# EAGLE library part LT3742 (library PowerProducts)
LT-Spice library generated with : ltspice.ulp from: D:/Program Files (x86)/LTC/LTspiceIV/lib/sym/PowerProducts/LT3748*.asy at 07.10.2012 16:36:13
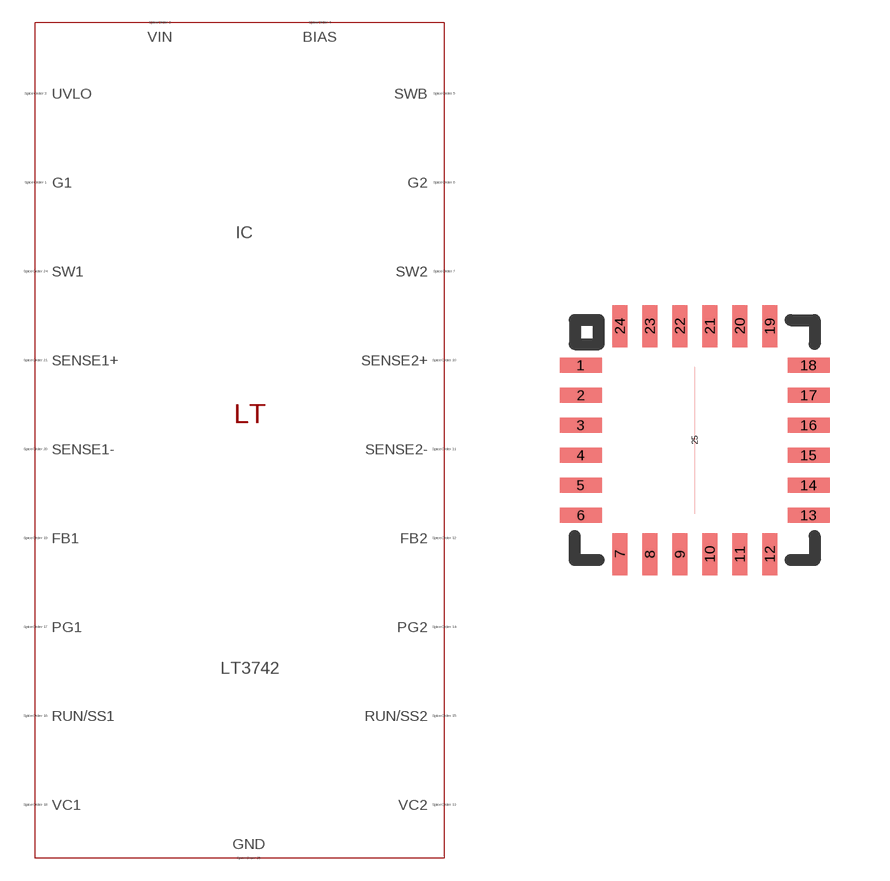
[diagram p93: symbol with the pads of QFN24(UF); footprint QFN24(UF)]

Designator prefix IC

## LT3742 (SPICEMODEL: LT3742.sub; SPICEPREFIX: X; VALUE2: LT3742)  [QFN24(UF)]
1  G1  pas
2  VIN  pas
3  UVLO  pas
4  BIAS  pas
5  SWB  pas
6  G2  pas
7  SW2  pas
10  SENSE2+  pas
11  SENSE2-  pas
12  FB2  pas
13  VC2  pas
14  PG2  pas
15  RUN/SS2  pas
16  RUN/SS1  pas
17  PG1  pas
18  VC1  pas
19  FB1  pas
20  SENSE1-  pas
21  SENSE1+  pas
24  SW1  pas
25  GND  pas

## Footprint QFN24(UF) (pad centres in mm)
Package generated from: QFN24(UF).asc (!PADS-POWERPCB-V5.0-BASIC! DESIGN DATABASE ASCII FILE 1.0) with :import-pads-powerpcb-v5.ulp Version 1.0.1 at 04.10.2012 14:11:24
smd 1.05 x 0.375: 1 -2.85,1.875; 2 -2.85,1.125; 3 -2.85,0.375; 4 -2.85,-0.375; 5 -2.85,-1.125; 6 -2.85,-1.875; 13 2.85,-1.875; 14 2.85,-1.125; 15 2.85,-0.375; 16 2.85,0.375; 17 2.85,1.125; 18 2.85,1.875
smd 0.375 x 1.05: 7 -1.875,-2.85; 8 -1.125,-2.85; 9 -0.375,-2.85; 10 0.375,-2.85; 11 1.125,-2.85; 12 1.875,-2.85; 19 1.875,2.85; 20 1.125,2.85; 21 0.375,2.85; 22 -0.375,2.85; 23 -1.125,2.85; 24 -1.875,2.85
smd 0 x 3.675: 25 0,0